# Altium footprint library PcbLib1.PcbLib: 11 footprints
Each footprint in its own frame and in the unit in brackets; x right, y up, seen from the top. Pads: shape width x height; smd on the part's side, far side on the other; paste and mask are expansions set on the pad; w line width, h text height; cw(c..) or ccw(c..) is an arc to the next point about the centre after c.
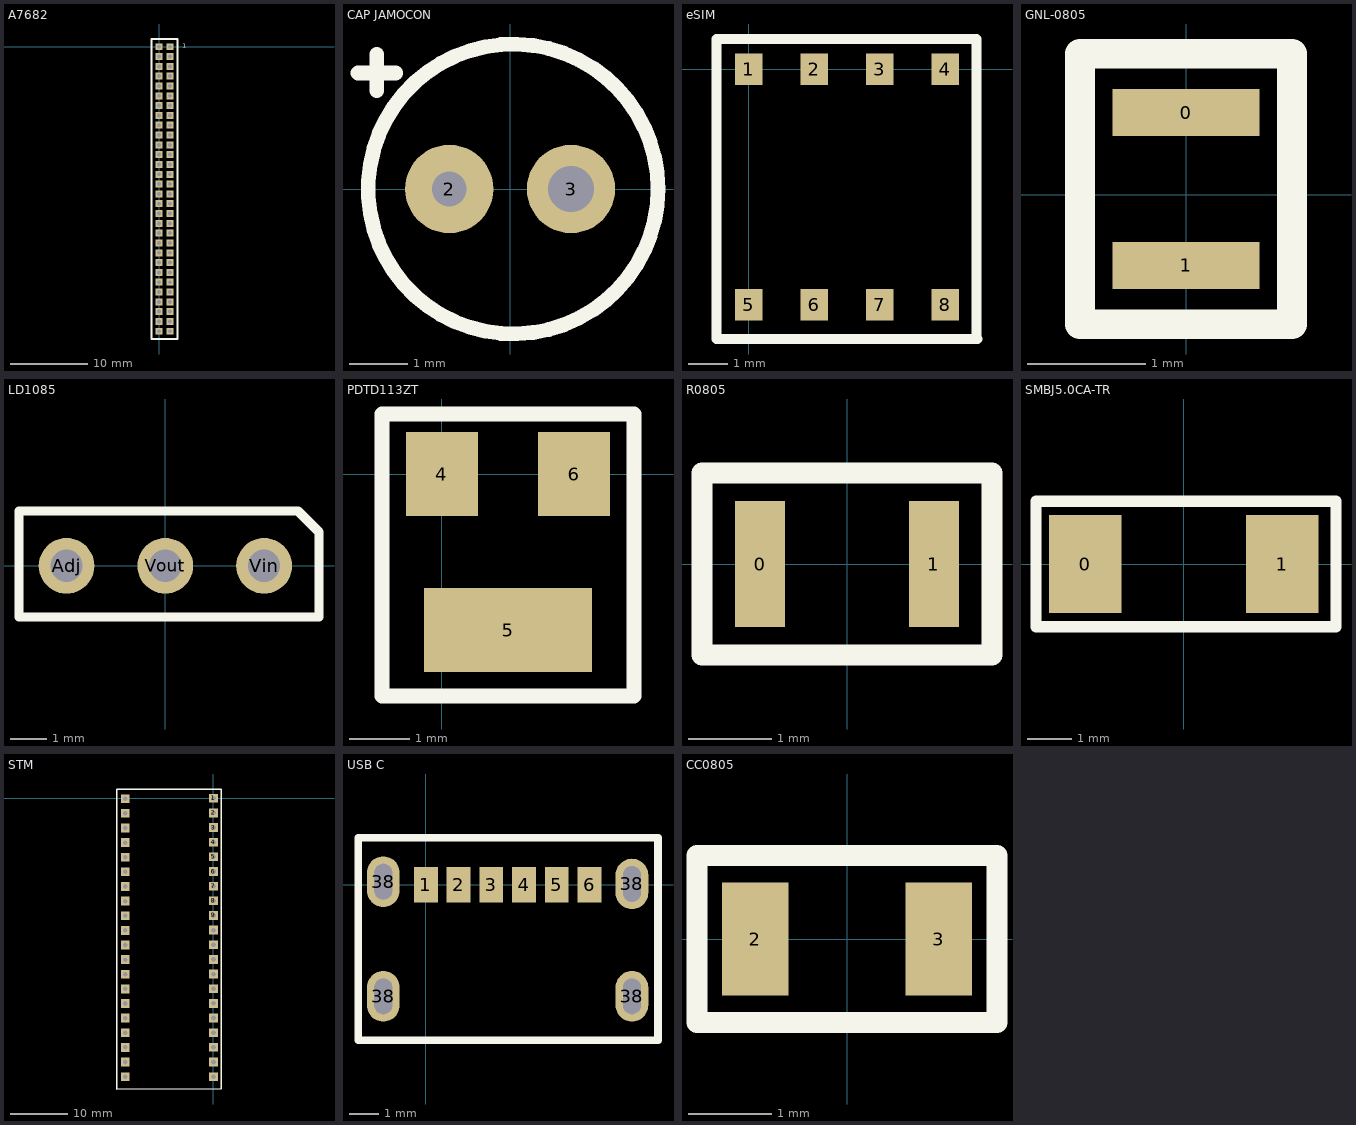
[diagram p0: the footprints below, top view; thin cyan lines are the x and y axes]

## A7682 [mm]
pads (60):
  rect 0.9x0.9 hole 0.5 square: 1(1.4,0) 2(0,0) 3(1.4,-1.269) 4(0,-1.269) 5(1.4,-2.538) 6(0,-2.538) 7(1.4,-3.807) 8(0,-3.807) 9(1.4,-5.076) 10(0,-5.076) 11(1.4,-6.345) 12(0,-6.345) 13(1.4,-7.614) 14(0,-7.614) 15(1.4,-8.883) 16(0,-8.883) 17(1.4,-10.152) 18(0,-10.152) 19(1.4,-11.421) 20(0,-11.421) 21(1.4,-12.69) 22(0,-12.69) 23(1.4,-13.959) 24(0,-13.959) 25(1.4,-15.228) 26(0,-15.228) 27(1.4,-16.497) 28(0,-16.497) 29(1.4,-17.765) 30(0,-17.766) 31(1.4,-19.034) 32(0,-19.035) 33(1.4,-20.303) 34(0,-20.303) 35(1.4,-21.572) 36(0,-21.572) 37(1.4,-22.841) 38(0,-22.841) 39(1.4,-24.11) 40(0,-24.11) 41(1.4,-25.379) 42(0,-25.379) 43(1.4,-26.648) 44(0,-26.648) 45(1.4,-27.917) 46(0,-27.917) 47(1.4,-29.186) 48(0,-29.186) 49(1.4,-30.455) 50(0,-30.455) 51(1.4,-31.724) 52(0,-31.724) 53(1.4,-32.993) 54(0,-32.993) 55(1.4,-34.262) 56(0,-34.262) 57(1.4,-35.531) 58(0,-35.531) 59(1.4,-36.8) 60(0,-36.8)
Top Overlay:
  lines w0.254: -1,-37.8 -1,1 2.375,1 2.375,-37.8 -1,-37.8
  text "1" at 3.054,-0.121 h0.5

## CAP JAMOCON [mm]
pads (2):
  round 1.524 hole 0.6: 2(-1.05,0)
  round 1.524 hole 0.8: 3(1.05,0)
Top Overlay:
  circle w0.254: c0.05,0 r2.5
  lines w0.254: -2.625,2 -1.975,2 ; -2.3,1.7 -2.3,2.325

## eSIM [mm]
pads (8):
  rect 0.7x0.8 smd: 1(0,0) 2(1.667,0) 3(3.333,0) 4(5,0) 5(0,-6) 6(1.667,-6) 7(3.333,-6) 8(5,-6)
Top Overlay:
  lines w0.254: -0.825,0.75 -0.825,-6.825 -0.825,-6.875 5.825,-6.875 ; -0.825,0.775 5.8,0.775 5.8,-6.875

## GNL-0805 [mm]
pads (2):
  rect 1.25x0.4 smd: 0(0,0.7) 1(0,-0.6)
Top Overlay:
  lines w0.254: -0.9,-1.1 0.9,-1.1 0.9,1.2 -0.9,1.2 -0.9,-1.1

## LD1085 [mil]
pads (3):
  round 60 hole 34.65: Adj(-106.3,0) Vin(106.3,0) Vout(0,0)
Top Overlay:
  lines w10: -157.48,-55.12 -157.48,59.06 142.72,59.06 165.35,36.42 165.35,-55.12 -157.48,-55.12

## PDTD113ZT [mm]
pads (3):
  rect 1.2x1.4 smd: 4(0,0) 6(2.2,0)
  rect 2.8x1.4 smd: 5(1.1,-2.6)
Top Overlay:
  lines w0.254: -1,-3.7 -1,1 3.2,1 3.2,-3.7 -1,-3.7

## R0805 [mm] "test_resisot H = 0.5+-0.1 l=0.35+-0.20  L = 2+-0.1"
pads (2):
  rect 0.6x1.524 smd: 0(-1.05,0) 1(1.05,0)
Top Overlay:
  lines w0.254: -1.75,-1.1 1.75,-1.1 1.75,1.1 -1.75,1.1 -1.75,-1.1

## SMBJ5.0CA-TR [mm]
pads (2):
  rect 1.62x2.18 smd: 0(-2.2,0) 1(2.2,0)
Top Overlay:
  lines w0.254: -3.3,-1.4 3.4,-1.4 3.4,1.4 -3.3,1.4 -3.3,-1.4

## STM [mil]
pads (40):
  rect 60x60 hole 31.5 square: 1(0,0) 2(0,-99.99) 3(0,-200) 4(0,-300) 5(0,-400) 6(0,-500) 7(0,-600) 8(0,-700) 9(0,-800) 10(0,-900) 11(0,-1000) 12(0,-1100) 13(0,-1200) 14(0,-1300) 15(0,-1400) 16(0,-1500) 17(0,-1600) 18(0,-1700) 19(0,-1800) 20(0,-1900) 21(-602.36,-3.21) 22(-602.36,-103.04) 23(-602.36,-202.87) 24(-602.36,-302.7) 25(-602.36,-402.53) 26(-602.36,-502.36) 27(-602.36,-602.2) 28(-602.36,-702.03) 29(-602.36,-801.86) 30(-602.36,-901.69) 31(-602.36,-1001.52) 32(-602.36,-1101.35) 33(-602.36,-1201.18) 34(-602.36,-1301.01) 35(-602.36,-1400.84) 36(-602.36,-1500.68) 37(-602.36,-1600.51) 38(-602.36,-1700.34) 39(-602.36,-1800.17) 40(-602.36,-1900)
Top Overlay:
  lines w10: -659.45,-1984.25 52.17,-1984.25 52.17,63 -659.45,63 -659.45,-1984.25

## USB C [mm]
pads (10):
  rect 0.8x1.2 smd: 1(0,0) 2(1.1,0) 3(2.2,0) 4(3.3,0) 5(4.4,0) 6(5.5,0)
  oval 1.1x1.7 hole 0.6 slot 1.2 at 90 deg: 38(-1.43,-3.75) 38(-1.43,0.1) 38(6.925,-3.75) 38(6.925,0.025)
Top Overlay:
  lines w0.254: -2.275,-5.225 -2.275,1.575 7.8,1.575 7.8,-5.225 -2.275,-5.225

## СС0805 [mm] "L = 2;  e=0.7; w=1.25"
pads (2):
  rect 0.8x1.35 smd: 2(-1.1,0) 3(1.1,0)
Top Overlay:
  lines w0.254: -1.8,-1 -1.8,1 1.8,1 1.8,-1 -1.8,-1